# Altium schematic symbol library SSQ-104-02-S-S.SchLib: 1 symbol
Pins are listed as number, name and electrical type; pins without a type are passive.

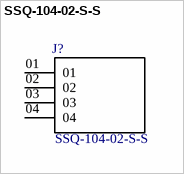
[diagram p0: symbol SSQ-104-02-S-S]

## SSQ-104-02-S-S
designator J?
SnapEDA_Link: https://www.snapeda.com/parts/SSQ-104-02-S-S/Samtec/view-part/?ref=snap; Check_prices: https://www.snapeda.com/parts/SSQ-104-02-S-S/Samtec/view-part/?ref=eda; Value: *
footprint *SAMTEC_SSQ-104-02-S-S_SSQ-104-02-S-S(Primary)
pins: 01, 02, 03, 04